# EAGLE library part MAX3377E (library MAX337E)
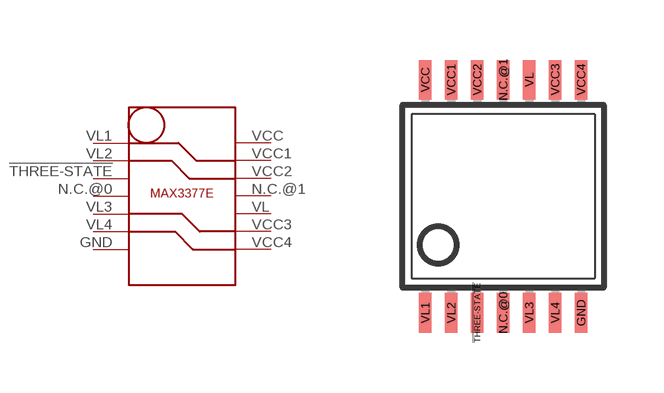
[diagram p0: symbol with the pads of TSSOP14; footprint TSSOP14]

Designator prefix -

## MAX3377E  [TSSOP14]
!THREE-STATE  !THREE-STATE
GND  GND
N.C.@0  NC
N.C.@1  NC
VCC  VCC
VCC1  VCC1
VCC2  VCC2
VCC3  VCC3
VCC4  VCC4
VL  VL
VL1  VL1
VL2  VL2
VL3  VL3
VL4  VL4

## Footprint TSSOP14 (pad centres in mm)
Thin Shrink Small Outline Plastic 14 MAX3223-MAX3243.pdf
smd 0.305 x 0.991: !THREE-STATE -0.65,-2.918; GND 1.95,-2.918; N.C.@0 0,-2.918; N.C.@1 0,2.918; VCC -1.95,2.918; VCC1 -1.3,2.918; VCC2 -0.65,2.918; VCC3 1.3,2.918; VCC4 1.95,2.918; VL 0.65,2.918; VL1 -1.95,-2.918; VL2 -1.3,-2.918; VL3 0.65,-2.918; VL4 1.3,-2.918